# Altium footprint library test.PcbLib: 17 footprints (part 1 of 2)
Each footprint in its own frame and in the unit in brackets; x right, y up, seen from the top. Pads: shape width x height; smd on the part's side, far side on the other; paste and mask are expansions set on the pad; w line width, h text height; cw(c..) or ccw(c..) is an arc to the next point about the centre after c.
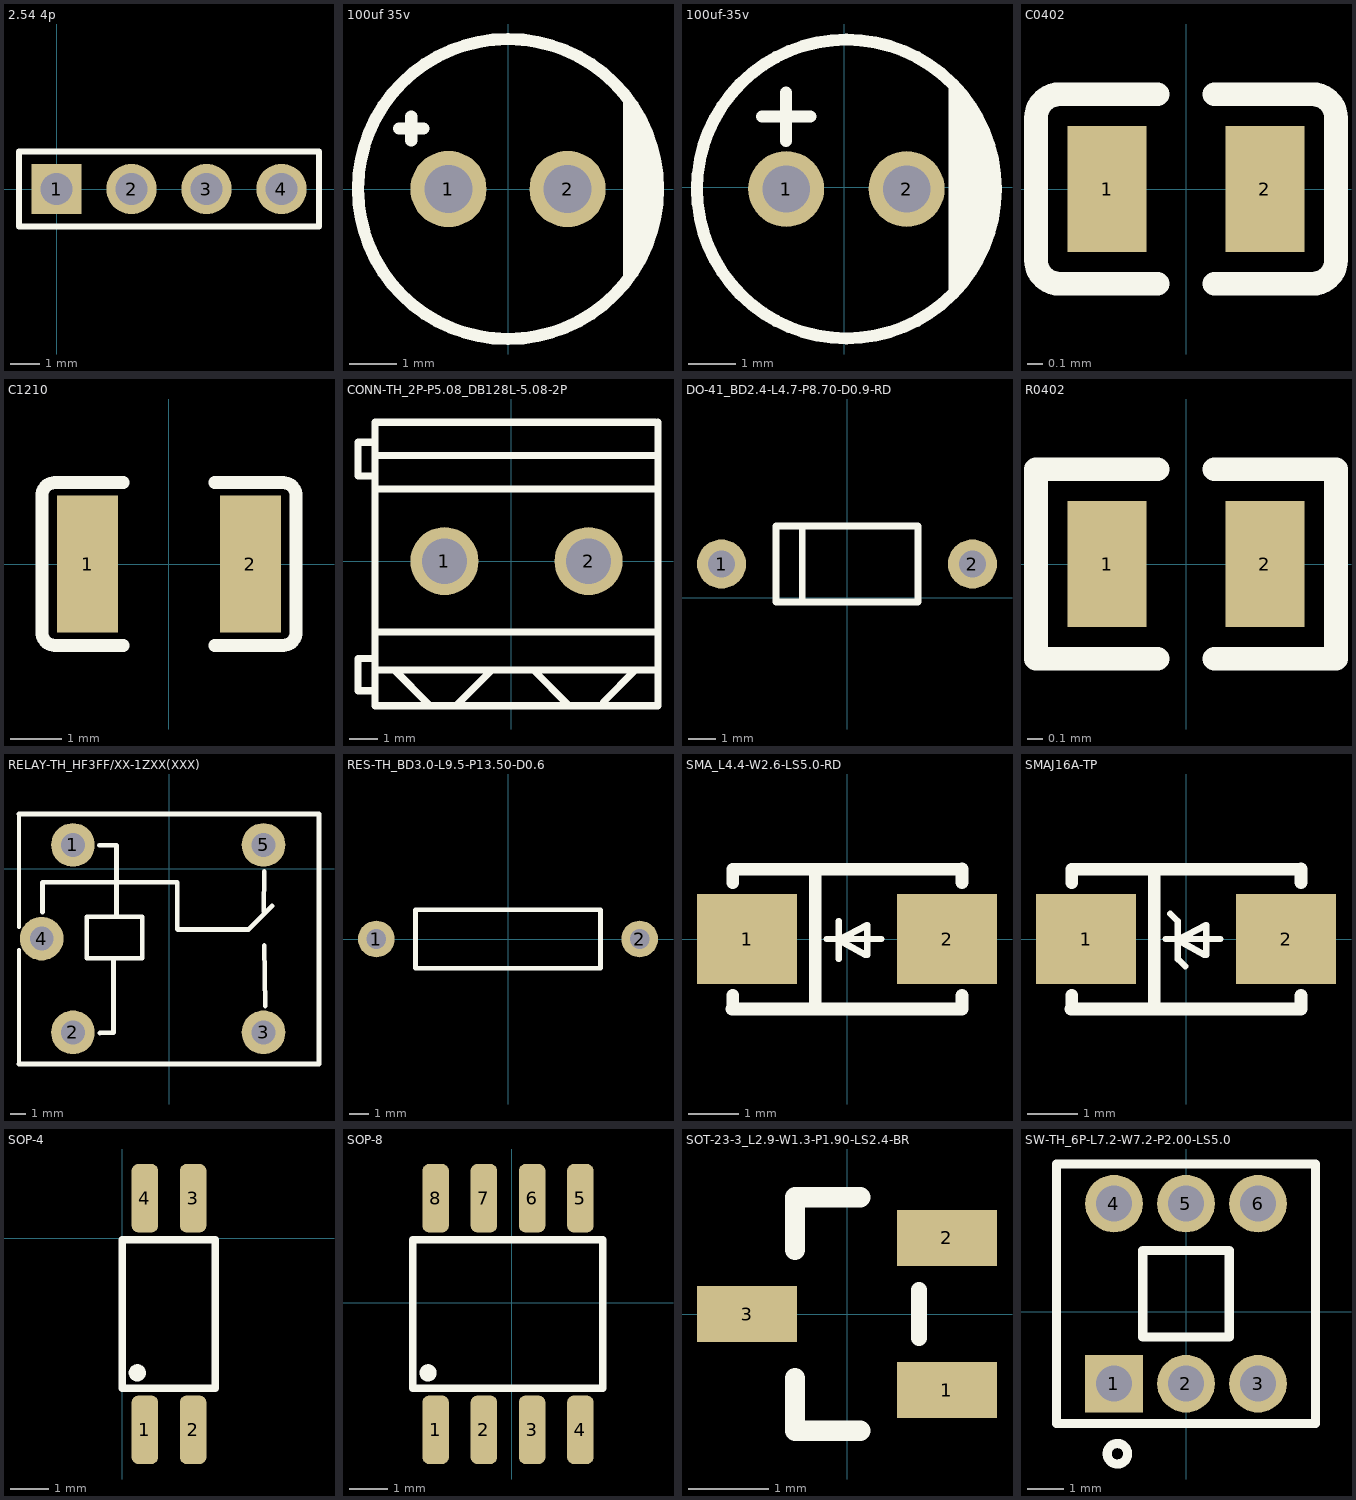
[diagram p0: the footprints below, top view; thin cyan lines are the x and y axes]

## 2.54 4p [mm]
pads (4):
  rect 1.7x1.7 hole 1.1: 1(0,0)
  round 1.7 hole 1.1: 2(2.54,0) 3(5.08,0) 4(7.62,0)
Top Overlay:
  lines w0.2: -1.27,-1.27 8.89,-1.27 8.89,1.27 -1.27,1.27 -1.27,-1.27

## 100uf 35v [mm]
pads (2):
  round 1.6 hole 1: 1(-1.25,0) 2(1.25,0)
Top Overlay:
  circle w0.254: c0,0 r3.15
  pour cut-out: 0,0
  lines w0.254: -2.286,1.27 -1.778,1.27 ; -2.032,1.016 -2.032,1.524 ; 2.54,-1.778 2.54,1.778 ; 2.718,-1.524 2.718,1.524 ; 2.794,-1.448 2.794,1.27 ; 2.982,-0.945 2.982,0.93
3D body "100uf 35v.STEP": height 11, standoff -19, extent -3.15,-3.15 3.15,3.15

## 100uf-35v [mm]
pads (2):
  round 1.6 hole 1: 1(-1.22,-0.04) 2(1.32,-0.04)
Top Overlay:
  circle w0.254: c0.05,-0.04 r3.15
  region: 2.209,2.246 2.369,2.102 2.645,1.772 2.872,1.407 3.047,1.014 3.165,0.601 3.225,0.175 3.225,-0.255 3.165,-0.681 3.047,-1.094 2.872,-1.487 2.645,-1.852 2.369,-2.182 2.209,-2.326
  lines w0.254: -1.728,1.484 -0.712,1.484 ; -1.22,0.976 -1.22,1.992
3D body "100uf 35v.STEP": height 11, standoff -19, extent -3.1,-3.2 3.2,3.1

## C0402 [mm]
pads (2):
  rect 0.5x0.8 smd: 1(-0.5,0) 2(0.5,0)
Top Overlay:
  lines w0.15: -0.18,-0.6 -0.8,-0.6 cw(c-0.8,-0.45) -0.95,-0.45 -0.95,-0.4 -0.95,0.4 -0.95,0.45 cw(c-0.8,0.45) -0.8,0.6 -0.18,0.6 ; 0.18,-0.6 0.8,-0.6 ccw(c0.8,-0.45) 0.95,-0.45 0.95,-0.4 0.95,0.4 0.95,0.45 ccw(c0.8,0.45) 0.8,0.6 0.18,0.6
3D body "User Library-C0402-1.STEP": height 0.48, standoff -0.02, extent -0.498,-0.254 0.498,0.246

## C1210 [mm]
pads (2):
  rect 1.2x2.7 smd: 1(-1.6,0) 2(1.6,0)
Top Overlay:
  lines w0.254: -0.9,-1.6 -2.2,-1.6 -2.25,-1.6 cw(c-2.25,-1.35) -2.5,-1.35 -2.5,1.35 cw(c-2.25,1.35) -2.25,1.6 -2.2,1.6 -0.9,1.6 ; 0.9,-1.6 2.2,-1.6 2.25,-1.6 ccw(c2.25,-1.35) 2.5,-1.35 2.5,1.35 ccw(c2.25,1.35) 2.25,1.6 2.2,1.6 ; 0.9,1.6 2.2,1.6 ; 2.2,1.6 2.2,1.6
3D body "c1210c123j5gactu.stp": height 1.4, standoff 0, extent -1.7,-1.397 1.7,1.303

## CONN-TH_2P-P5.08_DB128L-5.08-2P [mm]
pads (2):
  round 2.4 hole 1.6: 1(-2.347,0) 2(2.733,0)
Top Overlay:
  lines w0.254: -4.797,-5.1 -4.797,4.9 5.093,4.9 ; -4.797,-3.838 5.183,-3.838 ; -4.797,-2.469 -4.764,-2.503 5.183,-2.503 ; -4.797,2.54 5.183,2.54 ; -4.797,3.729 5.183,3.729 ; -4.795,-4.572 -5.395,-4.572 -5.395,-3.428 -4.795,-3.428 ; -4.795,3.003 -5.395,3.003 -5.395,4.192 -4.795,4.192 ; -4.767,-5.1 5.183,-5.1 5.183,4.9 ; -4.084,-3.838 -4.084,-3.866 -2.89,-5.06 ; -1.9,-5.06 -1.9,-5.057 -0.681,-3.838 ; 0.666,-3.838 0.79,-3.838 2.012,-5.06 ; 3.256,-5.06 3.256,-4.962 4.38,-3.838

## DO-41_BD2.4-L4.7-P8.70-D0.9-RD [mm]
pads (2):
  round 1.8 hole 1: 1(-4.6,1.245) 2(4.6,1.245)
Top Overlay:
  lines w0.254: -1.641,-0.155 -1.641,2.645 ; -2.6,-0.155 2.6,-0.155 2.6,2.645 -2.6,2.645 -2.6,-0.155

## R0402 [mm]
pads (2):
  rect 0.5x0.8 smd: 1(-0.5,0) 2(0.5,0)
Top Overlay:
  lines w0.15: -0.18,-0.6 -0.95,-0.6 -0.95,0.6 -0.18,0.6 ; 0.18,-0.6 0.95,-0.6 0.95,0.6 0.18,0.6
3D body "User Library-User Library-RES0402-2.STEP": height 0.35, standoff 0, extent -0.5,-0.25 0.5,0.25

## RELAY-TH_HF3FF/XX-1ZXX(XXX) [mil]
pads (5):
  round 110 hole 60: 1(-242.1,60.46) 2(-242.1,-411.94) 3(238.3,-411.94) 4(-320.8,-175.74) 5(238.3,60.46)
Top Overlay:
  lines w10: -377.95,-491.59 -377.95,-204.64 ; -377.95,-146.83 -377.95,138.33
  lines w11.81: -377.95,-491.59 377.95,-491.59 377.95,138.33 -377.95,138.33 ; -318.81,-109.59 -318.9,-33.79 21.1,-33.79 21.1,-151.9 22.05,-152.85 180.16,-152.85 200.16,-152.85 ; -175.9,59.7 -132.28,59.59 -132.28,-120.41 -207.4,-120.41 -207.4,-225.29 -67.4,-225.29 -67.4,-120.41 -139.84,-120.41 ; -174.32,-413.53 -139.84,-412.85 -139.84,-225.29 ; 199.67,-153.3 259.67,-93.3 ; 238.69,-107.8 239.85,-5.66 ; 240.16,-192.85 242.21,-345.42
3D body "User Library-HF3FF005-1HST.STEP": height 610.55, standoff -117.8, extent -374.01,-474.94 374.03,123.48

## RES-TH_BD3.0-L9.5-P13.50-D0.6 [mm]
pads (2):
  round 1.88 hole 1: 1(-6.75,0) 2(6.75,0)
Top Overlay:
  lines w0.254: -4.75,-1.5 4.75,-1.5 4.75,1.5 -4.75,1.5 -4.75,-1.5

## SMA_L4.4-W2.6-LS5.0-RD [mm]
pads (2):
  rect 2x1.8 smd: 1(-2,0) 2(2,0)
Top Overlay:
  lines w0.127: -0.406,0 0.686,0 ; -0.166,-0.401 -0.166,-0.02 ; -0.166,0.361 -0.166,-0.02 ; 0.376,-0.321 -0.166,-0.02 ; 0.406,-0.321 0.406,0.279 -0.166,-0.02
  lines w0.254: -2.3,-1.4 2.3,-1.4 2.3,-1.131 ; -2.286,-1.4 -2.286,-1.131 ; -2.286,1.131 -2.286,1.397 2.3,1.397 ; -0.635,-1.4 -0.635,1.397 ; 2.3,1.131 2.3,1.4
3D body "User Library-Diode Molded Body.STEP": height 2.27, standoff -0.04, extent -2.5,-1.35 2.5,1.35

## SMAJ16A-TP [mm]
pads (2):
  rect 2x1.8 smd: 1(-2,0) 2(2,0)
Top Overlay:
  lines w0.127: -0.406,0 0.686,0 ; -0.318,0.508 -0.178,0.368 ; -0.166,0.361 -0.166,-0.02 ; -0.013,-0.546 -0.152,-0.406 -0.166,-0.406 -0.166,-0.02 ; 0.376,-0.321 -0.166,-0.02 ; 0.406,-0.321 0.406,0.279 -0.166,-0.02
  lines w0.254: -2.3,-1.4 2.3,-1.4 2.3,-1.131 ; -2.286,-1.4 -2.286,-1.131 ; -2.286,1.131 -2.286,1.397 2.3,1.397 ; -0.635,-1.4 -0.635,1.397 ; 2.3,1.131 2.3,1.4
3D body "User Library-Diode Molded Body.STEP": height 2.27, standoff -0.04, extent -2.5,-1.35 2.5,1.35

## SOP-4 [mm]
pads (4):
  rrect50% 0.7x1.8 smd: 1(0.6,-5.05) 2(1.87,-5.05) 3(1.87,1.05) 4(0.6,1.05)
Top Overlay:
  circle w0.254: c0.4,-3.55 r0.1
  lines w0.2: 2.4,-3.95 0,-3.95 0,-0.05 2.45,-0.05 2.45,-3.95
3D body "User Library-SOP-4-1.STEP": height 2.1, standoff 0, extent -0.15,-5.45 2.65,1.55

## SOP-8 [mm]
pads (8):
  rrect50% 0.7x1.8 smd: 1(-2,-3.35) 2(-0.73,-3.35) 3(0.54,-3.35) 4(1.81,-3.35) 5(1.81,2.75) 6(0.54,2.75) 7(-0.73,2.75) 8(-2,2.75)
Top Overlay:
  circle w0.254: c-2.2,-1.85 r0.1
  lines w0.2: -2.6,-2.25 2.4,-2.25 2.4,1.65 -2.6,1.65 -2.6,-2.25
3D body: height 3.15, standoff -3.15, extent -0.65,0.1 -0.65,0.1
3D body: height 0.75, standoff -0.86, extent 0,0.15 0,0.15
3D body "User Library-sop-8.STEP": height 1.6, standoff 0, extent -2.61,-3.271 2.41,2.771

## SOT-23-3_L2.9-W1.3-P1.90-LS2.4-BR [mm]
pads (3):
  rect 1.25x0.7 smd: 1(1.25,-0.95) 2(1.25,0.95) 3(-1.25,0)
Top Overlay:
  lines w0.2: 0.9,-0.3 0.9,0.3
  lines w0.254: -0.65,-0.8 -0.65,-1.46 0.165,-1.46 ; 0.165,1.46 -0.65,1.46 ; -0.65,0.8 -0.65,1.46 ; -0.65,0.8 -0.65,1.46 ; -0.65,0.8 -0.65,1.46
3D body "bzx84-a3v3_215.stp": height 1, standoff 0, extent -1.016,-1.45 1.284,1.45
3D body: height 1.35, standoff -1.35, extent -1.397,0.635 -1.397,0.635

## SW-TH_6P-L7.2-W7.2-P2.00-LS5.0 [mm]
pads (6):
  rect 1.6x1.6 hole 1: 1(-2,-1.999)
  round 1.6 hole 1: 2(0,-1.999) 3(2,-1.999) 4(-2,3.001) 5(0,3.001) 6(2,3.001)
Top Overlay:
  circle w0.254: c-1.905,-3.944 r0.284
  lines w0.254: -3.6,-3.099 3.6,-3.099 3.6,4.101 -3.6,4.101 -3.6,-3.099 ; -1.2,-0.699 1.2,-0.699 1.2,1.701 -1.2,1.701 -1.2,-0.699